# Altium schematic symbol library Schlib1.SchLib: 5 symbols
Pins are listed as number, name and electrical type; pins without a type are passive.

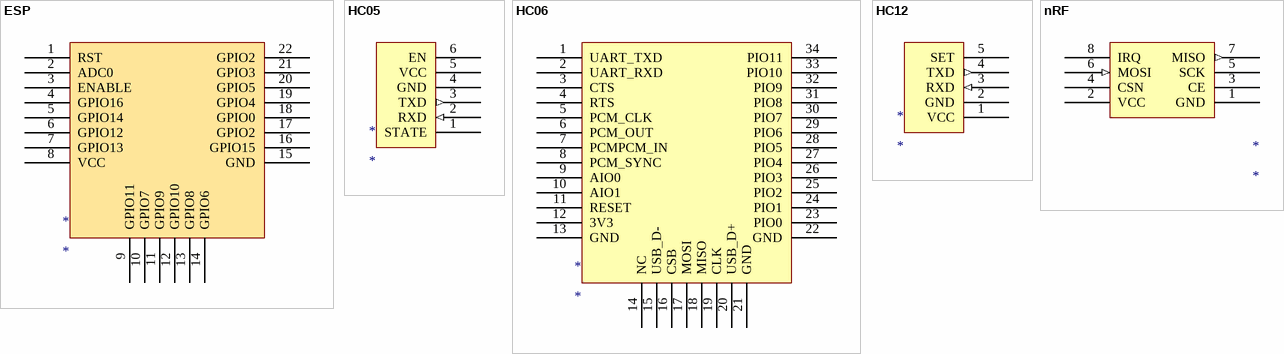
[diagram p0: symbols ESP to nRF]

## ESP
designator *
footprint ESP
footprint ESP (Footprint not found)
footprint ESP (Footprint not found)
footprint ESP
pins: 1 RST, 2 ADC0, 3 ENABLE, 4 GPIO16, 5 GPIO14, 6 GPIO12, 7 GPIO13, 8 VCC (power), 9 GPIO11, 10 GPIO7, 11 GPIO9, 12 GPIO10, 13 GPIO8, 14 GPIO6, 15 GND, 16 GPIO15, 17 GPIO2, 18 GPIO0, 19 GPIO4, 20 GPIO5, 21 GPIO3, 22 GPIO2

## HC05
designator *
footprint HC05
pins: 1 STATE, 2 RXD (in), 3 TXD (out), 4 GND, 5 VCC (power), 6 EN

## HC06
designator *
footprint HC06
pins: 1 UART_TXD, 2 UART_RXD, 3 CTS, 4 RTS, 5 PCM_CLK, 6 PCM_OUT, 7 PCMPCM_IN, 8 PCM_SYNC, 9 AIO0, 10 AIO1, 11 RESET, 12 3V3, 13 GND, 14 NC, 15 USB_D-, 16 CSB, 17 MOSI, 18 MISO, 19 CLK, 20 USB_D+, 21 GND, 22 GND, 23 PIO0, 24 PIO1, 25 PIO2, 26 PIO3, 27 PIO4, 28 PIO5, 29 PIO6, 30 PIO7, 31 PIO8, 32 PIO9, 33 PIO10, 34 PIO11

## HC12
designator *
footprint HC12
pins: 1 VCC (power), 2 GND, 3 RXD (in), 4 TXD (out), 5 SET

## nRF
designator *
footprint nRF
pins: 1 GND, 2 VCC (power), 3 CE, 4 CSN (power), 5 SCK, 6 MOSI (in), 7 MISO (out), 8 IRQ